# EAGLE library part SXBP-162+ (library SXBP-162+)
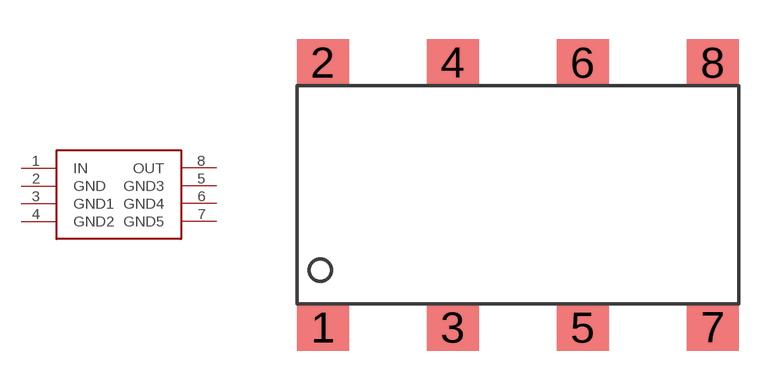
[diagram p0: symbol with the pads of SXBP-162+; footprint SXBP-162+]

Designator prefix -

## SXBP-162+  [SXBP-162+]
1  IN
2  GND
3  GND1
4  GND2
5  GND3
6  GND4
7  GND5
8  OUT

## Footprint SXBP-162+ (pad centres in mm)
smd 2 x 1.8: 1 -12.5,-2.4; 2 -12.5,7.8; 3 -7.5,-2.4; 4 -7.5,7.8; 5 -2.5,-2.4; 6 -2.5,7.8; 7 2.5,-2.4; 8 2.5,7.8